# Altium schematic symbol library Board_Props.SchLib: 4 symbols
Pins are listed as number, name and electrical type; pins without a type are passive.

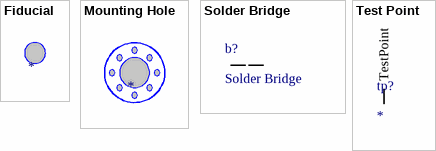
[diagram p0: symbols Fiducial to Test Point]

## Fiducial
designator f?
Fiducial
footprint Fiducial

## Mounting Hole
designator H?
Mounting Hole
footprint Mounting Hole

## Solder Bridge
designator b?
footprint Solder Bridge
pins: 1, 2

## Test Point
designator tp?
Test Point
footprint Test Point
pins: 1 TestPoint